# Altium footprint library PCB_Footprints.PcbLib: 23 footprints (part 1 of 2)
Each footprint in its own frame and in the unit in brackets; x right, y up, seen from the top. Pads: shape width x height; smd on the part's side, far side on the other; paste and mask are expansions set on the pad; w line width, h text height; cw(c..) or ccw(c..) is an arc to the next point about the centre after c.
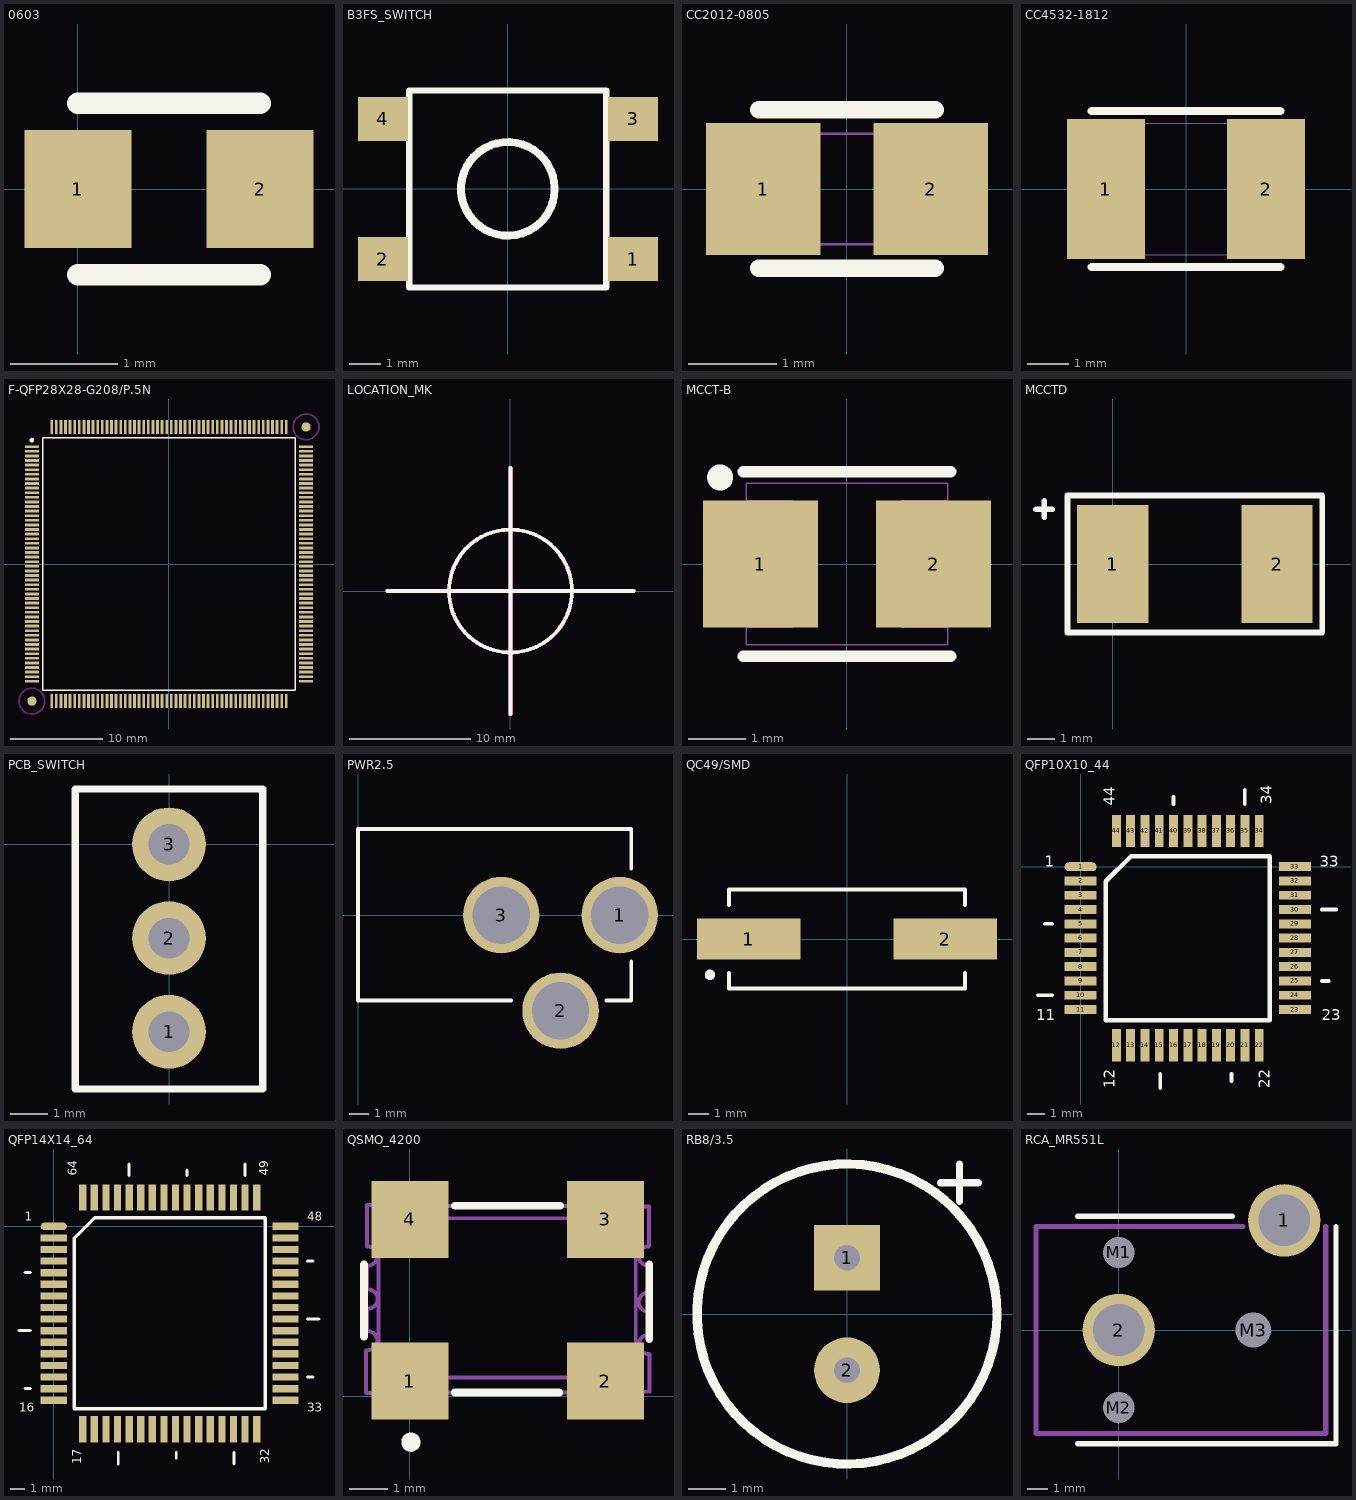
[diagram p0: the footprints below, top view; thin cyan lines are the x and y axes]

## 0603 [mm]
pads (2):
  rect 1x1.1 smd: 1(0,0) 2(1.7,0)
Top Overlay:
  lines w0.203: 0,-0.8 1.7,-0.8 ; 0,0.8 1.7,0.8

## B3FS_SWITCH [mm]
pads (4):
  rect 1.6x1.4 smd: 1(4.01,-2.25) 2(-4,-2.25) 3(4.01,2.24) 4(-4,2.24)
Top Overlay:
  circle w0.254: c0,0 r1.5
  lines w0.2: -3.16,-3.16 -3.16,3.15 3.15,3.15 3.15,-3.16 -3.16,-3.16

## CC2012-0805 [mm]
pads (2):
  rect 1.3x1.5 smd: 1(-0.95,0) 2(0.95,0)
Top Overlay:
  lines w0.2: -1,-0.9 1,-0.9 ; -1,0.9 1,0.9
Mechanical 15:
  lines w0.025: -0.975,-0.625 -0.975,0.625 0.975,0.625 0.975,-0.625 -0.975,-0.625

## CC4532-1812 [mm]
pads (2):
  rect 1.9x3.4 smd: 1(-1.95,0) 2(1.95,0)
Top Overlay:
  lines w0.2: -2.3,-1.9 2.3,-1.9 ; -2.3,1.9 2.3,1.9
Mechanical 15:
  lines w0.025: -2.25,-1.6 -2.25,1.6 2.25,1.6 2.25,-1.6 -2.25,-1.6

## F-QFP28X28-G208/P.5N [mm]
pads (210):
  oval 1.55x0.3 smd: 1(-14.899,12.751)
  rect 1.55x0.3 smd: 2(-14.899,12.251) 3(-14.899,11.751) 4(-14.899,11.251) 5(-14.899,10.751) 6(-14.899,10.251) 7(-14.899,9.751) 8(-14.899,9.251) 9(-14.899,8.751) 10(-14.899,8.251) 11(-14.899,7.751) 12(-14.899,7.251) 13(-14.899,6.751) 14(-14.899,6.251) 15(-14.899,5.751) 16(-14.899,5.251) 17(-14.899,4.751) 18(-14.899,4.251) 19(-14.899,3.751) 20(-14.899,3.251) 21(-14.899,2.751) 22(-14.899,2.251) 23(-14.899,1.751) 24(-14.899,1.251) 25(-14.899,0.751) 26(-14.899,0.251) 27(-14.899,-0.249) 28(-14.899,-0.749) 29(-14.899,-1.249) 30(-14.899,-1.749) 31(-14.899,-2.249) 32(-14.899,-2.749) 33(-14.899,-3.249) 34(-14.899,-3.749) 35(-14.899,-4.249) 36(-14.899,-4.749) 37(-14.899,-5.249) 38(-14.899,-5.749) 39(-14.899,-6.249) 40(-14.899,-6.749) 41(-14.899,-7.249) 42(-14.899,-7.749) 43(-14.899,-8.249) 44(-14.899,-8.749) 45(-14.899,-9.249) 46(-14.899,-9.749) 47(-14.899,-10.249) 48(-14.899,-10.749) 49(-14.899,-11.249) 50(-14.899,-11.749) 51(-14.899,-12.249) 52(-14.899,-12.749) 105(14.901,-12.749) 106(14.901,-12.249) 107(14.901,-11.749) 108(14.901,-11.249) 109(14.901,-10.749) 110(14.901,-10.249) 111(14.901,-9.749) 112(14.901,-9.249) 113(14.901,-8.749) 114(14.901,-8.249) 115(14.901,-7.749) 116(14.901,-7.249) 117(14.901,-6.749) 118(14.901,-6.249) 119(14.901,-5.749) 120(14.901,-5.249) 121(14.901,-4.749) 122(14.901,-4.249) 123(14.901,-3.749) 124(14.901,-3.249) 125(14.901,-2.749) 126(14.901,-2.249) 127(14.901,-1.749) 128(14.901,-1.249) 129(14.901,-0.749) 130(14.901,-0.249) 131(14.901,0.251) 132(14.901,0.751) 133(14.901,1.251) 134(14.901,1.751) 135(14.901,2.251) 136(14.901,2.751) 137(14.901,3.251) 138(14.901,3.751) 139(14.901,4.251) 140(14.901,4.751) 141(14.901,5.251) 142(14.901,5.751) 143(14.901,6.251) 144(14.901,6.751) 145(14.901,7.251) 146(14.901,7.751) 147(14.901,8.251) 148(14.901,8.751) 149(14.901,9.251) 150(14.901,9.751) 151(14.901,10.251) 152(14.901,10.751) 153(14.901,11.251) 154(14.901,11.751) 155(14.901,12.251) 156(14.901,12.751)
  rect 0.3x1.55 smd: 53(-12.749,-14.899) 54(-12.249,-14.899) 55(-11.749,-14.899) 56(-11.249,-14.899) 57(-10.749,-14.899) 58(-10.249,-14.899) 59(-9.749,-14.899) 60(-9.249,-14.899) 61(-8.749,-14.899) 62(-8.249,-14.899) 63(-7.749,-14.899) 64(-7.249,-14.899) 65(-6.749,-14.899) 66(-6.249,-14.899) 67(-5.749,-14.899) 68(-5.249,-14.899) 69(-4.749,-14.899) 70(-4.249,-14.899) 71(-3.749,-14.899) 72(-3.249,-14.899) 73(-2.749,-14.899) 74(-2.249,-14.899) 75(-1.749,-14.899) 76(-1.249,-14.899) 77(-0.749,-14.899) 78(-0.249,-14.899) 79(0.251,-14.899) 80(0.751,-14.899) 81(1.251,-14.899) 82(1.751,-14.899) 83(2.251,-14.899) 84(2.751,-14.899) 85(3.251,-14.899) 86(3.751,-14.899) 87(4.251,-14.899) 88(4.751,-14.899) 89(5.251,-14.899) 90(5.751,-14.899) 91(6.251,-14.899) 92(6.751,-14.899) 93(7.251,-14.899) 94(7.751,-14.899) 95(8.251,-14.899) 96(8.751,-14.899) 97(9.251,-14.899) 98(9.751,-14.899) 99(10.251,-14.899) 100(10.751,-14.899) 101(11.251,-14.899) 102(11.751,-14.899) 103(12.251,-14.899) 104(12.751,-14.899) 157(12.751,14.901) 158(12.251,14.901) 159(11.751,14.901) 160(11.251,14.901) 161(10.751,14.901) 162(10.251,14.901) 163(9.751,14.901) 164(9.251,14.901) 165(8.751,14.901) 166(8.251,14.901) 167(7.751,14.901) 168(7.251,14.901) 169(6.751,14.901) 170(6.251,14.901) 171(5.751,14.901) 172(5.251,14.901) 173(4.751,14.901) 174(4.251,14.901) 175(3.751,14.901) 176(3.251,14.901) 177(2.751,14.901) 178(2.251,14.901) 179(1.751,14.901) 180(1.251,14.901) 181(0.751,14.901) 182(0.251,14.901) 183(-0.249,14.901) 184(-0.749,14.901) 185(-1.249,14.901) 186(-1.749,14.901) 187(-2.249,14.901) 188(-2.749,14.901) 189(-3.249,14.901) 190(-3.749,14.901) 191(-4.249,14.901) 192(-4.749,14.901) 193(-5.249,14.901) 194(-5.749,14.901) 195(-6.249,14.901) 196(-6.749,14.901) 197(-7.249,14.901) 198(-7.749,14.901) 199(-8.249,14.901) 200(-8.749,14.901) 201(-9.249,14.901) 202(-9.749,14.901) 203(-10.249,14.901) 204(-10.749,14.901) 205(-11.249,14.901) 206(-11.749,14.901) 207(-12.249,14.901) 208(-12.749,14.901)
  round 1 smd: FID1(-14.899,-14.899) FID2(14.901,14.901)
Top Layer keep-out:
  circle w0.2: c-14.899,-14.899 r1.4
  circle w0.2: c14.901,14.901 r1.4
Top Overlay:
  circle w0.25: c-14.899,13.451 r0.125
  lines w0.2: -13.724,-13.724 -13.724,13.726 13.726,13.726 13.726,-13.724 -13.724,-13.724

## LOCATION_MK [mm]
Top Layer:
  circle w0.305: c0,0 r5.08
  circle w0.305: c0,0 r5.08
  lines w0.305: -10.16,0 10.16,0 -10.16,0 ; 0,-10.16 0,10.16 0,-10.16
Mid-Layer 1:
  circle w0.305: c0,0 r5.08
  lines w0.305: -10.16,0 10.16,0 ; 0,-10.16 0,10.16
Mid-Layer 14:
  circle w0.305: c0,0 r5.08
  lines w0.305: -10.16,0 10.16,0 ; 0,-10.16 0,10.16
Bottom Layer:
  circle w0.305: c0,0 r5.08
  circle w0.305: c0,0 r5.08
  lines w0.305: -10.16,0 10.16,0 -10.16,0 ; 0,-10.16 0,10.16 0,-10.16
Top Overlay:
  circle w0.305: c0,0 r5.08
  circle w0.305: c0,0 r5.08
  lines w0.305: -10.16,0 10.16,0 -10.16,0 ; 0,-10.16 0,10.16 0,-10.16
Bottom Overlay:
  circle w0.305: c0,0 r5.08
  circle w0.305: c0,0 r5.08
  lines w0.305: -10.16,0 10.16,0 -10.16,0 ; 0,-10.16 0,10.16 0,-10.16
Top Paste:
  circle w0.305: c0,0 r5.08
  circle w0.305: c0,0 r5.08
  lines w0.305: -10.16,0 10.16,0 -10.16,0 ; 0,-10.16 0,10.16 0,-10.16
Bottom Paste:
  circle w0.305: c0,0 r5.08
  circle w0.305: c0,0 r5.08
  lines w0.305: -10.16,0 10.16,0 -10.16,0 ; 0,-10.16 0,10.16 0,-10.16
Top Solder:
  circle w0.305: c0,0 r5.08
  circle w0.305: c0,0 r5.08
  lines w0.305: -10.16,0 10.16,0 -10.16,0 ; 0,-10.16 0,10.16 0,-10.16
Bottom Solder:
  circle w0.305: c0,0 r5.08
  circle w0.305: c0,0 r5.08
  lines w0.305: -10.16,0 10.16,0 -10.16,0 ; 0,-10.16 0,10.16 0,-10.16
Internal Plane 1:
  circle w0.305: c0,0 r5.08
  circle w0.305: c0,0 r5.08
  lines w0.305: -10.16,0 10.16,0 -10.16,0 ; 0,-10.16 0,10.16 0,-10.16
Internal Plane 2:
  circle w0.305: c0,0 r5.08
  circle w0.305: c0,0 r5.08
  lines w0.305: -10.16,0 10.16,0 -10.16,0 ; 0,-10.16 0,10.16 0,-10.16
Drill Guide:
  circle w0.305: c0,0 r5.08
  circle w0.305: c0,0 r5.08
  lines w0.305: -10.16,0 10.16,0 -10.16,0 ; 0,-10.16 0,10.16 0,-10.16
Keep-Out Layer:
  circle w0.305: c0,0 r5.08
  circle w0.305: c0,0 r5.08
  lines w0.305: -10.16,0 10.16,0 -10.16,0 ; 0,-10.16 0,10.16 0,-10.16
Mechanical 1:
  circle w0.305: c0,0 r5.08
  circle w0.305: c0,0 r5.08
  lines w0.305: -10.16,0 10.16,0 -10.16,0 ; 0,-10.16 0,10.16 0,-10.16
Mechanical 4:
  circle w0.305: c0,0 r5.08
  circle w0.305: c0,0 r5.08
  lines w0.305: -10.16,0 10.16,0 -10.16,0 ; 0,-10.16 0,10.16 0,-10.16
Drill Drawing:
  circle w0.305: c0,0 r5.08
  circle w0.305: c0,0 r5.08
  lines w0.305: -10.16,0 10.16,0 -10.16,0 ; 0,-10.16 0,10.16 0,-10.16

## MCCT-B [mm]
pads (2):
  rect 2x2.2 smd: 1(-1.5,0) 2(1.5,0)
Top Overlay:
  circle w0.25: c-2.2,1.5 r0.1
  lines w0.2: -1.8,-1.6 1.8,-1.6 ; -1.8,1.6 1.8,1.6
Mechanical 15:
  lines w0.025: -1.75,-1.1 -0.95,-1.1 -0.95,1.1 -1.75,1.1 ; 1.75,-1.1 0.95,-1.1 0.95,1.1 1.75,1.1 ; -1.75,-1.4 1.75,-1.4 1.75,1.4 -1.75,1.4 -1.75,-1.4

## MCCTD [mm]
pads (2):
  rect 2.6x4.3 smd: 1(0,0) 2(6,0)
Top Overlay:
  lines w0.203: -2.8,2 -2.2,2 ; -2.5,1.7 -2.5,2.3 ; -1.65,-2.5 -1.65,0 -1.65,2.5 7.65,2.5 7.65,-2.5 -1.65,-2.5

## PCB_SWITCH [mm]
pads (3):
  round 2 hole 1.1: 1(0,-5.08) 2(0,-2.54) 3(0,0)
Top Overlay:
  lines w0.2: -2.54,-6.63 2.54,-6.63 2.54,1.5 -2.54,1.5 -2.54,-6.63

## PWR2.5 [mm]
pads (3):
  round 4 hole 3: 1(13.7,0) 2(10.6,-5) 3(7.5,0)
Top Overlay:
  lines w0.2: 8,-4.475 0,-4.475 0,0.025 0,4.5 14.3,4.5 14.3,2.425 ; 13,-4.475 14.3,-4.475 14.3,-2.425

## QC49/SMD [mm]
pads (2):
  rect 5x2 smd: 1(-4.75,0) 2(4.75,0)
Top Overlay:
  circle w0.25: c-6.625,-1.73 r0.125
  lines w0.2: -5.7,-1.65 -5.7,-2.4 5.7,-2.4 5.7,-1.65 ; -5.7,1.65 -5.7,2.4 5.7,2.4 5.7,1.65

## QFP10X10_44 [mm]
pads (44):
  oval 1.8x0.5 smd: 1(0,0)
  rect 1.8x0.5 smd: 2(0,-0.8) 3(0,-1.6) 4(0,-2.4) 5(0,-3.2) 6(0,-4) 7(0,-4.8) 8(0,-5.6) 9(0,-6.4) 10(0,-7.2) 11(0,-8) 23(12,-8) 24(12,-7.2) 25(12,-6.4) 26(12,-5.6) 27(12,-4.8) 28(12,-4) 29(12,-3.2) 30(12,-2.4) 31(12,-1.6) 32(12,-0.8) 33(12,0)
  rect 0.5x1.8 smd: 12(2,-10) 13(2.8,-10) 14(3.6,-10) 15(4.4,-10) 16(5.2,-10) 17(6,-10) 18(6.8,-10) 19(7.6,-10) 20(8.4,-10) 21(9.2,-10) 22(10,-10) 34(10,2) 35(9.2,2) 36(8.4,2) 37(7.6,2) 38(6.8,2) 39(6,2) 40(5.2,2) 41(4.4,2) 42(3.6,2) 43(2.8,2) 44(2,2)
Top Overlay:
  lines w0.203: -2.4,-7.2 -1.6,-7.2 ; -2,-3.2 -1.6,-3.2 ; 4.45,-12.4 4.45,-11.6 ; 5.2,3.5 5.2,3.9 ; 8.45,-12 8.45,-11.6 ; 9.2,3.5 9.2,4.3 ; 13.5,-6.4 13.9,-6.4 ; 13.5,-2.4 14.3,-2.4
  lines w0.25: 1.41,-8.59 10.59,-8.59 10.59,0.59 2.82,0.59 1.41,-0.82 1.41,-8.59
  text "44" at 1.9,3.4 h0.61
  text "34" at 10.7,3.5 h0.61
  text "11" at -2.5,-8.6 h0.61
  text "1" at -2,0 h0.61
  text "22" at 10.6,-12.4 h0.61
  text "12" at 1.9,-12.4 h0.61
  text "33" at 13.4,0 h0.61
  text "23" at 13.5,-8.6 h0.61

## QFP14X14_64 [mm]
pads (64):
  oval 1.8x0.5 smd: 1(0,0)
  rect 1.8x0.5 smd: 2(0,-0.8) 3(0,-1.6) 4(0,-2.4) 5(0,-3.2) 6(0,-4) 7(0,-4.8) 8(0,-5.6) 9(0,-6.4) 10(0,-7.2) 11(0,-8) 12(0,-8.8) 13(0,-9.6) 14(0,-10.4) 15(0,-11.2) 16(0,-12) 33(16,-12) 34(16,-11.2) 35(16,-10.4) 36(16,-9.6) 37(16,-8.8) 38(16,-8) 39(16,-7.2) 40(16,-6.4) 41(16,-5.6) 42(16,-4.8) 43(16,-4) 44(16,-3.2) 45(16,-2.4) 46(16,-1.6) 47(16,-0.8) 48(16,0)
  rect 0.5x1.8 smd: 17(2,-14) 18(2.8,-14) 19(3.6,-14) 20(4.4,-14) 21(5.2,-14) 22(6,-14) 23(6.8,-14) 24(7.6,-14) 25(8.4,-14) 26(9.2,-14) 27(10,-14) 28(10.8,-14) 29(11.6,-14) 30(12.4,-14) 31(13.2,-14) 32(14,-14) 49(14,2) 50(13.2,2) 51(12.4,2) 52(11.6,2) 53(10.8,2) 54(10,2) 55(9.2,2) 56(8.4,2) 57(7.6,2) 58(6.8,2) 59(6,2) 60(5.2,2) 61(4.4,2) 62(3.6,2) 63(2.8,2) 64(2,2)
Top Overlay:
  lines w0.203: -2.4,-7.2 -1.6,-7.2 ; -2,-11.2 -1.6,-11.2 ; -2,-3.2 -1.6,-3.2 ; 4.45,-16.4 4.45,-15.6 ; 5.2,3.5 5.2,4.3 ; 8.45,-16 8.45,-15.6 ; 9.2,3.5 9.2,3.9 ; 12.45,-16.4 12.45,-15.6 ; 13.2,3.5 13.2,4.3 ; 17.5,-10.4 17.9,-10.4 ; 17.5,-6.4 18.3,-6.4 ; 17.5,-2.4 17.9,-2.4
  lines w0.25: 1.41,-12.59 14.59,-12.59 14.59,0.59 2.82,0.59 1.41,-0.82 1.41,-12.59
  text "1" at -2,0.4 h0.61
  text "16" at -2.4,-12.8 h0.61
  text "17" at 1.9,-16.4 h0.61
  text "32" at 14.85,-16.4 h0.61
  text "33" at 17.5,-12.8 h0.61
  text "48" at 17.5,0.4 h0.61
  text "49" at 14.8,3.5 h0.61
  text "64" at 1.6,3.5 h0.61

## QSMO_4200 [mm]
pads (4):
  rect 2x2 smd: 1(0,0.4) 2(5.08,0.4) 3(5.08,4.6) 4(0,4.6)
Top Overlay:
  circle w0.25: c0.025,-1.19 r0.125
  lines w0.2: -1.194,1.549 -1.194,3.429 ; 1.162,4.953 3.912,4.953 ; 1.168,0.102 3.886,0.102 ; 6.223,1.489 6.223,3.429
Mechanical 15:
  lines w0.1: -1.143,0.102 -1.143,1.194 ; -1.12,0.09 -0.27,0.09 -0.29,0.11 ; -1.12,3.9 -1.12,4.98 -0.26,4.98 ; -1.118,1.702 -1.118,2.286 ; -1.118,2.794 -1.118,3.378 ; -1.1,1.2 ccw(c-1.1,1.45) -1.1,1.7 ; -1.1,3.4 ccw(c-1.1,3.65) -1.1,3.9 ; -1.09,2.28 ccw(c-1.09,2.53) -1.09,2.78 ; -0.83,0.49 5.87,0.49 5.87,4.63 -0.82,4.63 -0.82,3.91 -0.82,0.51 ; -0.3,0.15 cw(c-0.05,0.15) 0.2,0.15 ; -0.23,4.91 ccw(c0.02,4.91) 0.27,4.91 ; 0.19,0.1 4.78,0.1 ; 0.25,4.95 4.87,4.95 ; 4.8,0.16 cw(c5.05,0.16) 5.3,0.16 ; 4.88,4.91 ccw(c5.13,4.91) 5.38,4.91 ; 5.29,0.12 6.23,0.12 6.23,1.1 ; 5.35,4.94 6.22,4.94 6.22,3.91 ; 6.198,1.62 6.198,2.184 ; 6.2,1.1 cw(c6.2,1.35) 6.2,1.6 ; 6.2,2.2 cw(c6.2,2.45) 6.2,2.7 ; 6.2,3.4 cw(c6.2,3.65) 6.2,3.9 ; 6.223,2.704 6.223,3.378

## RB8/3.5 [mil]
pads (2):
  rect 70x70 hole 27.56: 1(0,60)
  round 70 hole 27.56: 2(0,-60)
Top Overlay:
  circle w10: c0,0 r160
  lines w7.87: 100,140 140,140 ; 120,120 120,160

## RCA_MR551L [mm] "Schurter RCA PCB Socket (Farnell 152-396)"
pads (5):
  round 3.5 hole 2.5: 1(8,5.3) 2(0,0)
  round 1.3 hole 1.5 unplated: M1(0,3.75) M2(0,-3.75)
  round 1.5 hole 1.7 unplated: M3(6.5,0)
Top Overlay:
  lines w0.254: -2,-5.5 10.5,-5.5 10.5,5 ; -2,5.5 5.5,5.5
Mechanical 1:
  lines w0.254: 6,5 -4,5 -4,-5 10,-5 10,5